# Altium footprint library sensor.PcbLib: 1 footprints
Each footprint in its own frame and in the unit in brackets; x right, y up, seen from the top. Pads: shape width x height; smd on the part's side, far side on the other; paste and mask are expansions set on the pad; w line width, h text height; cw(c..) or ccw(c..) is an arc to the next point about the centre after c.
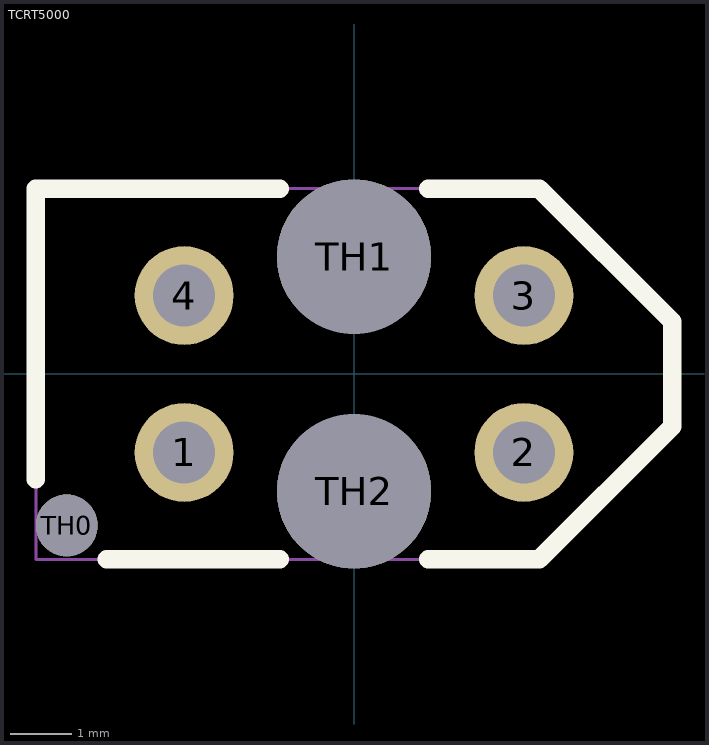
[diagram p0: the footprint, top view; thin cyan lines are the x and y axes]

## TCRT5000 [mm] "IR sensor"
height 8.5
pads (7):
  round 1.6 hole 1: 1(-2.75,-1.27) 2(2.75,-1.27) 3(2.75,1.27) 4(-2.75,1.27)
  round 1 hole 1: TH0(-4.65,-2.45)
  round 2.5 hole 2.5: TH1(0,1.9) TH2(0,-1.9)
Top Overlay:
  lines w0.3: -5.15,-1.7 -5.15,3 -1.2,3 ; -4,-3 -1.2,-3 ; 1.2,-3 3,-3 5.15,-0.85 5.15,0.85 3,3 1.2,3
Mechanical 1:
  lines w0.05: -5.15,-3 -5.15,3 3,3 5.15,0.85 5.15,-0.85 3,-3 -5.15,-3
3D body "User Library-TCRT-5000.STEP": height 6.5, standoff -25.41, extent -5.2,-3 5.1,2.8